# Altium schematic symbol library WL-SMCW_0805.SchLib: 1 symbol
Pins are listed as number, name and electrical type; pins without a type are passive.

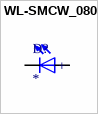
[diagram p0: symbol WL-SMCW_0805]

## WL-SMCW_0805
designator D?
Red 630nm LED Indication - Discrete 1.9V 0805 (2012 Metric); MF: WÃ¼rth Elektronik; MP: 150080SS75000; SnapEDA_Link: https://www.snapeda.com/parts/150080SS75000/W%25C3%25BCrth+Elektronik+Midcom/view-part/?ref=snap; Package: 0805 WÃ¼rth Elektronik; Value: *; Check_prices: https://www.snapeda.com/parts/150080SS75000/W%25C3%25BCrth+Elektronik+Midcom/view-part/?ref=eda
footprint WL-SMCW_0805
pins: 1 NEG, 2 POS
text: +